# Altium schematic symbol library PB134012.Schlib: 1 symbol
Pins are listed as number, name and electrical type; pins without a type are passive.

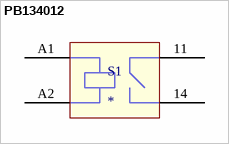
[diagram p0: symbol PB134012]

## PB134012
designator S1
TE Connectivity SPST-NO 12VDC 10A Power Relay
pins: 11, 14, A1, A2